# Altium schematic symbol library Schlib_Kyocera.SchLib: 3 symbols
Pins are listed as number, name and electrical type; pins without a type are passive.

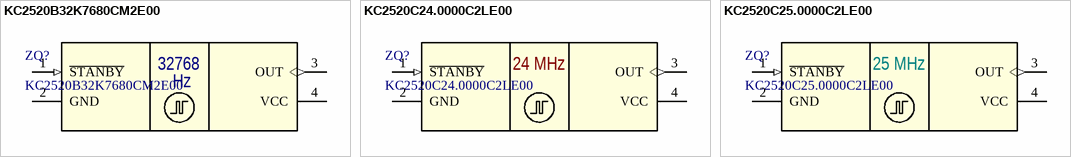
[diagram p0: symbols KC2520B32K7680CM2E00 to KC2520C25.0000C2LE00]

## KC2520B32K7680CM2E00
designator ZQ?
32.768kHz XO (Standard) CMOS Oscillator 1.6 V ~ 5.5 V ±25ppm; Manufacturer: AVX Corp/Kyocera Corp; Part Number: KC2520B32K7680CM2E00; Package: SMD2520
footprint SMD2520B
pins: 1 ~{STANBY} (in), 2 GND (power), 3 OUT (out), 4 VCC (power)
text: 32768; Hz

## KC2520C24.0000C2LE00
designator ZQ?
24 MHz clock oscillator ±15ppm; Manufacturer: AVX Corp/Kyocera Corp; Part Number: KC2520C24.0000C2LE00; Package: SMD2520
footprint SMD2520B
pins: 1 ~{STANBY} (in), 2 GND (power), 3 OUT (out), 4 VCC (power)
text: 24 MHz

## KC2520C25.0000C2LE00
designator ZQ?
25 MHz clock oscillator ±15ppm; Manufacturer: AVX Corp/Kyocera Corp; Part Number: KC2520C25.0000C2LE00; Package: SMD2520
footprint SMD2520B
pins: 1 ~{STANBY} (in), 2 GND (power), 3 OUT (out), 4 VCC (power)
text: 25 MHz